# EAGLE library part 52610-0871 (library con-molex)
FPC ZIF, 1 MM
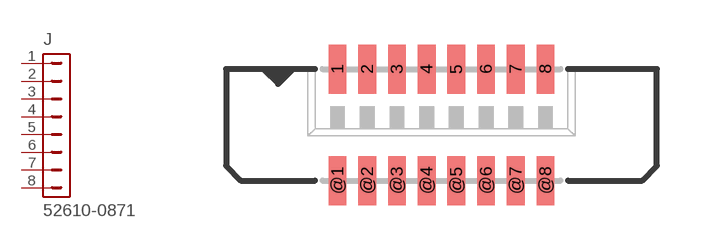
[diagram p76: symbol with the pads of 52610-0871; footprint 52610-0871]

Designator prefix J

## 52610-0871  [52610-0871]
1  1  pas
2  2  pas
3  3  pas
4  4  pas
5  5  pas
6  6  pas
7  7  pas
8  8  pas

## Footprint 52610-0871 (pad centres in mm)
ZIF Receptacle, 1MM
smd 0.6 x 1.65: 1 -3.5,2; 2 -2.5,2; 3 -1.5,2; 4 -0.5,2; 5 0.5,2; 6 1.5,2; 7 2.5,2; 8 3.5,2; @1 -3.5,-1.75; @2 -2.5,-1.75; @3 -1.5,-1.75; @4 -0.5,-1.75; @5 0.5,-1.75; @6 1.5,-1.75; @7 2.5,-1.75; @8 3.5,-1.75